# Altium integrated library Linear Technology PMIC-Switching Reg LTC1174-LTC3901.IntLib: 2647 symbols (part 97 of 310)
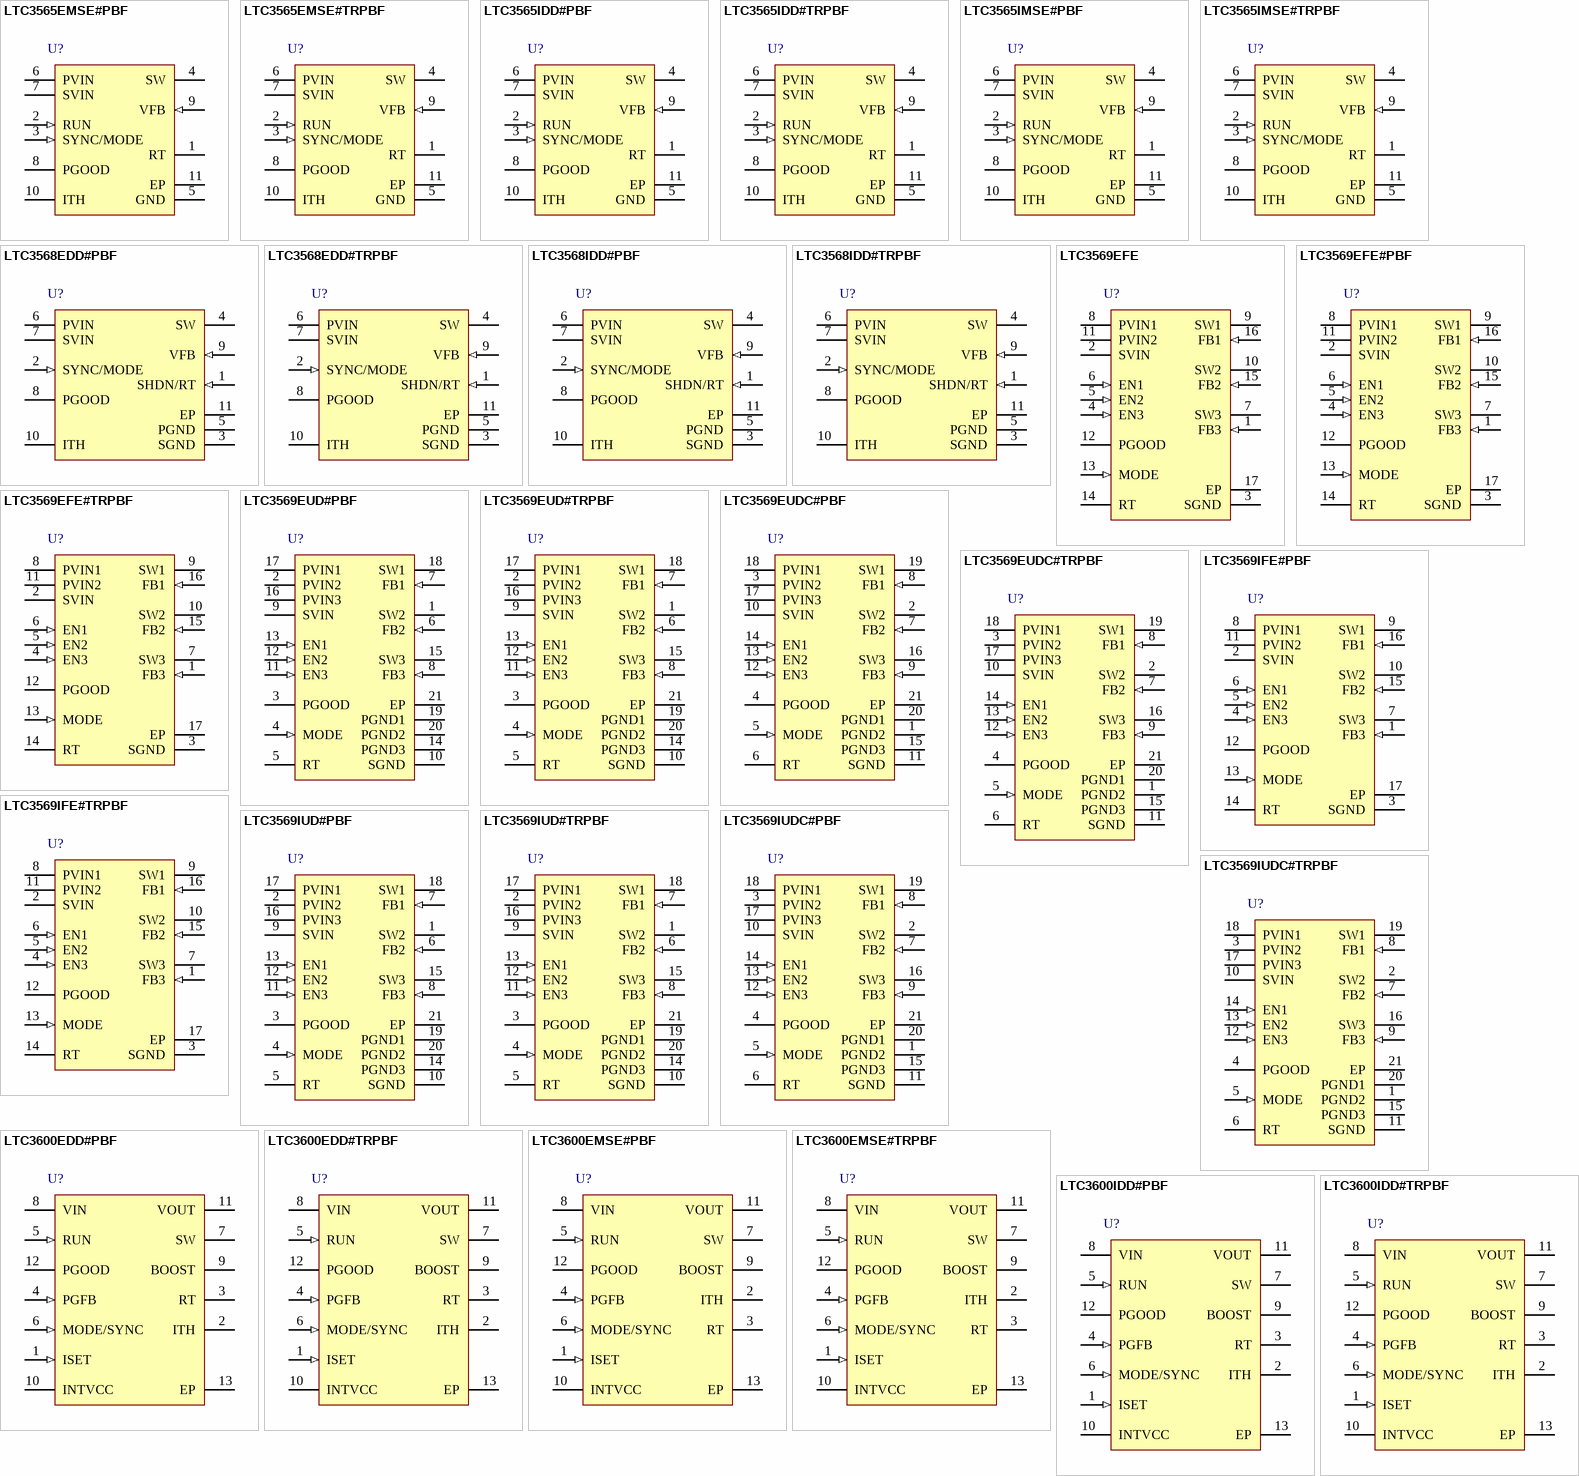
[diagram p170: symbols LTC3565EMSE#PBF to LTC3600IDD#TRPBF]

## LTC3565IMSE#TRPBF
designator U?
1.25 A, 4 MHz, Synchronous Step-Down DC/DC Converter, 10-pin SOP (MSE-10-EDP), -40 to 125 degC, Pb-Free, Tape and Reel; Manufacturer: Linear Technology; PartNumber: LTC3565IMSE#TRPBF; Number of Outputs: 1; PackageReference: MSE-10; PackageDescription: 10-Pin Plastic MSOP, Exposed Die Pad, Body 3 x 3 mm, Pitch 0.5 mm; Supplier 1: Digi-Key; Supplier Part Number 1: LTC3565IMSE#TRPBF-ND; RoHS: TRUE
footprint LT-MSE-10-EDP_N (SOP, 10-Leads, Body 3.1x3.1mm, Pitch 0.5mm, Thermal Pad 1.88x1.68mm, IPC Medium Density)
footprint LT-MSE-10-EDP_L (SOP, 10-Leads, Body 3.1x3.1mm, Pitch 0.5mm, Thermal Pad 1.88x1.68mm, IPC High Density)
footprint LT-MSE-10-EDP_M (SOP, 10-Leads, Body 3.1x3.1mm, Pitch 0.5mm, Thermal Pad 1.88x1.68mm, IPC Low Density)
pins: 1 RT "Timing Resistor Pin. The oscillator frequency is programmed by connecting a resistor from this pin to ground.", 2 RUN (in) "Converter Enable Pin. Forcing this pin above 1.5V enables this part, while forcing it below 0.3V causes the device to shut down. In shutdown, the device draws <1uA supply current. This pin must be driven; do not float.", 3 SYNC/MODE (in) "Combination Mode Selection and Oscillator Synchronization Pin. This pin controls the operation of the device. When tied to SVIN or GND, Burst Mode operation or pulse skipping mode is selected, respectively. If this pin is (See Datasheet)", 4 SW (power) "The Switch Node Connection to the Inductor. This pin swings from PVIN to GND.", 5 GND (power) "Main Power Ground Pin. Connect to the (-) terminal of COUT, and (-) terminal of CIN. The exposed pad must be soldered to electrical ground on the PCB.", 6 PVIN (power) "Main Supply Pin. Must be closely decoupled to GND.", 7 SVIN (power) "The Signal Power Pin. All active circuitry is powered from this pin. Must be closely decoupled to GND. SVIN must be greater than or equal to PVIN.", 8 PGOOD (oc) "The Power Good Pin. This common drain logic output is pulled to GND when the output voltage is not within +/-7% of regulation.", 9 VFB (in) "Receives the feedback voltage from the external resistive divider across the output. Nominal voltage for this pin is 0.6V.", 10 ITH "Error Amplifier Compensation Point. The current comparator threshold increases with this control voltage. Nominal voltage range for this pin is 0.4V to 1.4V.", 11 EP (power) "Main Power Ground Pin. Connect to the (-) terminal of COUT, and (-) terminal of CIN. The exposed pad must be soldered to electrical ground on the PCB."

## LTC3568EDD#PBF
designator U?
1.8 A, 4 MHz, Synchronous Step-Down DC/DC Converter, 10-pin SON (DD-10), -40 to 125 degC, Pb-Free; Manufacturer: Linear Technology; PartNumber: LTC3568EDD#PBF; Number of Outputs: 1; PackageReference: DD-10; PackageDescription: 10-Pin Plastic DFN, Body 3 x 3 mm, Pitch 0.5 mm; Supplier 1: Digi-Key; Supplier Part Number 1: LTC3568EDD#PBF-ND; RoHS: TRUE; Code_JEDEC: MO-229
footprint LT-DD-10_V (SON, 10-Leads, Body 3x3mm, Pitch 0.5mm, Thermal Pad 2.38x1.65mm)
pins: 1 SHDN/RT (in) "Combination Shutdown and Timing Resistor Pin. The oscillator frequency is programmed by connecting a resistor from this pin to ground. Forcing this pin to SVIN causes the device to be shut down. In shutdown all functions are (See Datasheet)", 2 SYNC/MODE (in) "Combination Mode Selection and Oscillator Synchronization Pin. This pin controls the operation of the device. When tied to SVIN or SGND, Burst Mode operation or pulse skipping mode is selected, respectively. If this pin is (See Datasheet)", 3 SGND (power) "The Signal Ground Pin. All small-signal components and compensation components should be connected to this ground (see Board Layout Considerations).", 4 SW (power) "The Switch Node Connection to the Inductor. This pin swings from PVIN to PGND.", 5 PGND (power) "Main Power Ground Pin. Connect to the (-) terminal of COUT, and (-) terminal of CIN.", 6 PVIN (power) "Main Supply Pin. Must be closely decoupled to PGND.", 7 SVIN (power) "The Signal Power Pin. All active circuitry is powered from this pin. Must be closely decoupled to SGND. SVIN must be greater than or equal to PVIN.", 8 PGOOD (oc) "The Power Good Pin.", 9 VFB (in) "Receives the feedback voltage from the external resistive divider across the output. Nominal voltage for this pin is 0.8V.", 10 ITH "Error Amplifier Compensation Point.", 11 EP (power) "Power Ground."

## LTC3568EDD#TRPBF
designator U?
1.8 A, 4 MHz, Synchronous Step-Down DC/DC Converter, 10-pin SON (DD-10), -40 to 125 degC, Pb-Free, Tape and Reel; Manufacturer: Linear Technology; PartNumber: LTC3568EDD#TRPBF; Number of Outputs: 1; PackageReference: DD-10; PackageDescription: 10-Pin Plastic DFN, Body 3 x 3 mm, Pitch 0.5 mm; Supplier 1: Digi-Key; Supplier Part Number 1: LTC3568EDD#TRPBF-ND; RoHS: TRUE; Code_JEDEC: MO-229
footprint LT-DD-10_V (SON, 10-Leads, Body 3x3mm, Pitch 0.5mm, Thermal Pad 2.38x1.65mm)
pins: 1 SHDN/RT (in) "Combination Shutdown and Timing Resistor Pin. The oscillator frequency is programmed by connecting a resistor from this pin to ground. Forcing this pin to SVIN causes the device to be shut down. In shutdown all functions are (See Datasheet)", 2 SYNC/MODE (in) "Combination Mode Selection and Oscillator Synchronization Pin. This pin controls the operation of the device. When tied to SVIN or SGND, Burst Mode operation or pulse skipping mode is selected, respectively. If this pin is (See Datasheet)", 3 SGND (power) "The Signal Ground Pin. All small-signal components and compensation components should be connected to this ground (see Board Layout Considerations).", 4 SW (power) "The Switch Node Connection to the Inductor. This pin swings from PVIN to PGND.", 5 PGND (power) "Main Power Ground Pin. Connect to the (-) terminal of COUT, and (-) terminal of CIN.", 6 PVIN (power) "Main Supply Pin. Must be closely decoupled to PGND.", 7 SVIN (power) "The Signal Power Pin. All active circuitry is powered from this pin. Must be closely decoupled to SGND. SVIN must be greater than or equal to PVIN.", 8 PGOOD (oc) "The Power Good Pin.", 9 VFB (in) "Receives the feedback voltage from the external resistive divider across the output. Nominal voltage for this pin is 0.8V.", 10 ITH "Error Amplifier Compensation Point.", 11 EP (power) "Power Ground."

## LTC3568IDD#PBF
designator U?
1.8 A, 4 MHz, Synchronous Step-Down DC/DC Converter, 10-pin SON (DD-10), -40 to 125 degC, Pb-Free; Manufacturer: Linear Technology; PartNumber: LTC3568IDD#PBF; Number of Outputs: 1; PackageReference: DD-10; PackageDescription: 10-Pin Plastic DFN, Body 3 x 3 mm, Pitch 0.5 mm; Supplier 1: Digi-Key; Supplier Part Number 1: LTC3568IDD#PBF-ND; RoHS: TRUE; Code_JEDEC: MO-229
footprint LT-DD-10_V (SON, 10-Leads, Body 3x3mm, Pitch 0.5mm, Thermal Pad 2.38x1.65mm)
pins: 1 SHDN/RT (in) "Combination Shutdown and Timing Resistor Pin. The oscillator frequency is programmed by connecting a resistor from this pin to ground. Forcing this pin to SVIN causes the device to be shut down. In shutdown all functions are (See Datasheet)", 2 SYNC/MODE (in) "Combination Mode Selection and Oscillator Synchronization Pin. This pin controls the operation of the device. When tied to SVIN or SGND, Burst Mode operation or pulse skipping mode is selected, respectively. If this pin is (See Datasheet)", 3 SGND (power) "The Signal Ground Pin. All small-signal components and compensation components should be connected to this ground (see Board Layout Considerations).", 4 SW (power) "The Switch Node Connection to the Inductor. This pin swings from PVIN to PGND.", 5 PGND (power) "Main Power Ground Pin. Connect to the (-) terminal of COUT, and (-) terminal of CIN.", 6 PVIN (power) "Main Supply Pin. Must be closely decoupled to PGND.", 7 SVIN (power) "The Signal Power Pin. All active circuitry is powered from this pin. Must be closely decoupled to SGND. SVIN must be greater than or equal to PVIN.", 8 PGOOD (oc) "The Power Good Pin.", 9 VFB (in) "Receives the feedback voltage from the external resistive divider across the output. Nominal voltage for this pin is 0.8V.", 10 ITH "Error Amplifier Compensation Point.", 11 EP (power) "Power Ground."

## LTC3568IDD#TRPBF
designator U?
1.8 A, 4 MHz, Synchronous Step-Down DC/DC Converter, 10-pin SON (DD-10), -40 to 125 degC, Pb-Free, Tape and Reel; Manufacturer: Linear Technology; PartNumber: LTC3568IDD#TRPBF; Number of Outputs: 1; PackageReference: DD-10; PackageDescription: 10-Pin Plastic DFN, Body 3 x 3 mm, Pitch 0.5 mm; Supplier 1: Digi-Key; Supplier Part Number 1: LTC3568IDD#TRPBF-ND; RoHS: TRUE; Code_JEDEC: MO-229
footprint LT-DD-10_V (SON, 10-Leads, Body 3x3mm, Pitch 0.5mm, Thermal Pad 2.38x1.65mm)
pins: 1 SHDN/RT (in) "Combination Shutdown and Timing Resistor Pin. The oscillator frequency is programmed by connecting a resistor from this pin to ground. Forcing this pin to SVIN causes the device to be shut down. In shutdown all functions are (See Datasheet)", 2 SYNC/MODE (in) "Combination Mode Selection and Oscillator Synchronization Pin. This pin controls the operation of the device. When tied to SVIN or SGND, Burst Mode operation or pulse skipping mode is selected, respectively. If this pin is (See Datasheet)", 3 SGND (power) "The Signal Ground Pin. All small-signal components and compensation components should be connected to this ground (see Board Layout Considerations).", 4 SW (power) "The Switch Node Connection to the Inductor. This pin swings from PVIN to PGND.", 5 PGND (power) "Main Power Ground Pin. Connect to the (-) terminal of COUT, and (-) terminal of CIN.", 6 PVIN (power) "Main Supply Pin. Must be closely decoupled to PGND.", 7 SVIN (power) "The Signal Power Pin. All active circuitry is powered from this pin. Must be closely decoupled to SGND. SVIN must be greater than or equal to PVIN.", 8 PGOOD (oc) "The Power Good Pin.", 9 VFB (in) "Receives the feedback voltage from the external resistive divider across the output. Nominal voltage for this pin is 0.8V.", 10 ITH "Error Amplifier Compensation Point.", 11 EP (power) "Power Ground."

## LTC3569EFE
designator U?
Triple Buck Regulator with 1.2 A and Two 600 mA Outputs and Individual Programmable References, 16-pin SOP (FE-16-EPV-BA), -40 to 125 degC; Manufacturer: Linear Technology; PartNumber: LTC3569EFE; Number of Outputs: 3; PackageReference: FE-16; PackageDescription: 16-Pin Plastic TSSOP, Body 5 x 4.4 mm, Pitch 0.65 mm; RoHS: FALSE
footprint LT-FE-16-EPV-BA_N (SOP, 16-Leads, Body 5x4.4mm, Pitch 0.65mm, Thermal Pad 2.74x2.74mm, IPC Medium Density)
footprint LT-FE-16-EPV-BA_L (SOP, 16-Leads, Body 5x4.4mm, Pitch 0.65mm, Thermal Pad 2.74x2.74mm, IPC High Density)
footprint LT-FE-16-EPV-BA_M (SOP, 16-Leads, Body 5x4.4mm, Pitch 0.65mm, Thermal Pad 2.74x2.74mm, IPC Low Density)
pins: 1 FB3 (in) "Receives the feedback voltage from the external resistive divider across the output of Buck 3. Nominal voltage for this pin is programmed with the EN3 pin from 800mV down to 425mV. When pulled to SVIN, Buck 3 is put into (See Datasheet)", 2 SVIN (power) "Main Supply Pin. Decouple to SGND with a low ESR 1uF capacitor.", 3 SGND (power) "Main Ground Pin. Decouple to SVIN.", 4 EN3 (in) "Enable Pin for Buck 3. Toggle up to 15 times to program reference feedback level from 800mV down to 425mV.", 5 EN2 (in) "Enable Pin for Buck 2. Toggle up to 15 times to program reference feedback level from 800mV down to 425mV.", 6 EN1 (in) "Enable Pin for Buck 1. Toggle up to 15 times to program reference feedback level from 800mV down to 425mV.", 7 SW3 (power) "Buck 3 Switch. Connect to the Inductor for Buck 3. This pin swings from PVIN3 to PGND3.", 8 PVIN1 (power) "Main Supply Pin for Buck 1. Decouple to PGND1 with a low ESR 4.7uF capacitor, CIN1. Decoupling capacitors should be summed where power supply pins are shared.", 9 SW1 (power) "Buck 1 Switch. Connect to the Inductor for Buck 1. This pin swings from PVIN1 to PGND1.", 10 SW2 (power) "Buck 2 Switch. Connect to the Inductor for Buck 2. This pin swings from PVIN2 to PGND2.", 11 PVIN2 (power) "Main Supply Pin for Buck 2. Decouple to PGND2 with a low ESR 4.7uF capacitor, CIN2. Decoupling capacitors should be summed where power supply pins are shared.", 12 PGOOD (oc) "The Power Good Pin. This open-drain output is released when an enabled output has risen to within 8% of the regulation voltage. When multiple outputs are enabled, PGOOD is the logical AND of each internal PGOOD.", 13 MODE (in) "Combination Mode Selection and Oscillator Synchronization Pin. This pin controls the operating mode of the device. When tied to SVIN, Burst Mode operation is selected. When tied to SGND, pulse-skipping mode is selected. The (See Datasheet)", 14 RT "Timing Resistor Pin. The free-running oscillator frequency is programmed by connecting a resistor from this pin to ground. Tie to SVIN to get a fixed 2.25MHz operating frequency.", 15 FB2 (in) "Receives the feedback voltage from the external resistive divider across the output of Buck 2. Nominal voltage for this pin is programmed with the EN2 pin from 800mV down to 425mV. When pulled to SVIN, Buck 2 is put into (See Datasheet)", 16 FB1 (in) "Receives the feedback voltage from the external resistive divider across the output of Buck 1. Nominal voltage for this pin is programmed with the EN1 pin from 800mV down to 425mV.", 17 EP (power) "The exposed pad must be connected to PCB ground for rated thermal performance and for electrical connection in the TSSOP package."

## LTC3569EFE#PBF
designator U?
Triple Buck Regulator with 1.2 A and Two 600 mA Outputs and Individual Programmable References, 16-pin SOP (FE-16-EPV-BA), -40 to 125 degC, Pb-Free; Manufacturer: Linear Technology; PartNumber: LTC3569EFE#PBF; Number of Outputs: 3; PackageReference: FE-16; PackageDescription: 16-Pin Plastic TSSOP, Body 5 x 4.4 mm, Pitch 0.65 mm; Supplier 1: Digi-Key; Supplier Part Number 1: LTC3569EFE#PBF-ND; RoHS: TRUE
footprint LT-FE-16-EPV-BA_N (SOP, 16-Leads, Body 5x4.4mm, Pitch 0.65mm, Thermal Pad 2.74x2.74mm, IPC Medium Density)
footprint LT-FE-16-EPV-BA_L (SOP, 16-Leads, Body 5x4.4mm, Pitch 0.65mm, Thermal Pad 2.74x2.74mm, IPC High Density)
footprint LT-FE-16-EPV-BA_M (SOP, 16-Leads, Body 5x4.4mm, Pitch 0.65mm, Thermal Pad 2.74x2.74mm, IPC Low Density)
pins: 1 FB3 (in) "Receives the feedback voltage from the external resistive divider across the output of Buck 3. Nominal voltage for this pin is programmed with the EN3 pin from 800mV down to 425mV. When pulled to SVIN, Buck 3 is put into (See Datasheet)", 2 SVIN (power) "Main Supply Pin. Decouple to SGND with a low ESR 1uF capacitor.", 3 SGND (power) "Main Ground Pin. Decouple to SVIN.", 4 EN3 (in) "Enable Pin for Buck 3. Toggle up to 15 times to program reference feedback level from 800mV down to 425mV.", 5 EN2 (in) "Enable Pin for Buck 2. Toggle up to 15 times to program reference feedback level from 800mV down to 425mV.", 6 EN1 (in) "Enable Pin for Buck 1. Toggle up to 15 times to program reference feedback level from 800mV down to 425mV.", 7 SW3 (power) "Buck 3 Switch. Connect to the Inductor for Buck 3. This pin swings from PVIN3 to PGND3.", 8 PVIN1 (power) "Main Supply Pin for Buck 1. Decouple to PGND1 with a low ESR 4.7uF capacitor, CIN1. Decoupling capacitors should be summed where power supply pins are shared.", 9 SW1 (power) "Buck 1 Switch. Connect to the Inductor for Buck 1. This pin swings from PVIN1 to PGND1.", 10 SW2 (power) "Buck 2 Switch. Connect to the Inductor for Buck 2. This pin swings from PVIN2 to PGND2.", 11 PVIN2 (power) "Main Supply Pin for Buck 2. Decouple to PGND2 with a low ESR 4.7uF capacitor, CIN2. Decoupling capacitors should be summed where power supply pins are shared.", 12 PGOOD (oc) "The Power Good Pin. This open-drain output is released when an enabled output has risen to within 8% of the regulation voltage. When multiple outputs are enabled, PGOOD is the logical AND of each internal PGOOD.", 13 MODE (in) "Combination Mode Selection and Oscillator Synchronization Pin. This pin controls the operating mode of the device. When tied to SVIN, Burst Mode operation is selected. When tied to SGND, pulse-skipping mode is selected. The (See Datasheet)", 14 RT "Timing Resistor Pin. The free-running oscillator frequency is programmed by connecting a resistor from this pin to ground. Tie to SVIN to get a fixed 2.25MHz operating frequency.", 15 FB2 (in) "Receives the feedback voltage from the external resistive divider across the output of Buck 2. Nominal voltage for this pin is programmed with the EN2 pin from 800mV down to 425mV. When pulled to SVIN, Buck 2 is put into (See Datasheet)", 16 FB1 (in) "Receives the feedback voltage from the external resistive divider across the output of Buck 1. Nominal voltage for this pin is programmed with the EN1 pin from 800mV down to 425mV.", 17 EP (power) "The exposed pad must be connected to PCB ground for rated thermal performance and for electrical connection in the TSSOP package."

## LTC3569EFE#TRPBF
designator U?
Triple Buck Regulator with 1.2 A and Two 600 mA Outputs and Individual Programmable References, 16-pin SOP (FE-16-EPV-BA), -40 to 125 degC, Pb-Free, Tape and Reel; Manufacturer: Linear Technology; PartNumber: LTC3569EFE#TRPBF; Number of Outputs: 3; PackageReference: FE-16; PackageDescription: 16-Pin Plastic TSSOP, Body 5 x 4.4 mm, Pitch 0.65 mm; Supplier 1: Digi-Key; Supplier Part Number 1: LTC3569EFE#TRPBF-ND; RoHS: TRUE
footprint LT-FE-16-EPV-BA_N (SOP, 16-Leads, Body 5x4.4mm, Pitch 0.65mm, Thermal Pad 2.74x2.74mm, IPC Medium Density)
footprint LT-FE-16-EPV-BA_L (SOP, 16-Leads, Body 5x4.4mm, Pitch 0.65mm, Thermal Pad 2.74x2.74mm, IPC High Density)
footprint LT-FE-16-EPV-BA_M (SOP, 16-Leads, Body 5x4.4mm, Pitch 0.65mm, Thermal Pad 2.74x2.74mm, IPC Low Density)
pins: 1 FB3 (in) "Receives the feedback voltage from the external resistive divider across the output of Buck 3. Nominal voltage for this pin is programmed with the EN3 pin from 800mV down to 425mV. When pulled to SVIN, Buck 3 is put into (See Datasheet)", 2 SVIN (power) "Main Supply Pin. Decouple to SGND with a low ESR 1uF capacitor.", 3 SGND (power) "Main Ground Pin. Decouple to SVIN.", 4 EN3 (in) "Enable Pin for Buck 3. Toggle up to 15 times to program reference feedback level from 800mV down to 425mV.", 5 EN2 (in) "Enable Pin for Buck 2. Toggle up to 15 times to program reference feedback level from 800mV down to 425mV.", 6 EN1 (in) "Enable Pin for Buck 1. Toggle up to 15 times to program reference feedback level from 800mV down to 425mV.", 7 SW3 (power) "Buck 3 Switch. Connect to the Inductor for Buck 3. This pin swings from PVIN3 to PGND3.", 8 PVIN1 (power) "Main Supply Pin for Buck 1. Decouple to PGND1 with a low ESR 4.7uF capacitor, CIN1. Decoupling capacitors should be summed where power supply pins are shared.", 9 SW1 (power) "Buck 1 Switch. Connect to the Inductor for Buck 1. This pin swings from PVIN1 to PGND1.", 10 SW2 (power) "Buck 2 Switch. Connect to the Inductor for Buck 2. This pin swings from PVIN2 to PGND2.", 11 PVIN2 (power) "Main Supply Pin for Buck 2. Decouple to PGND2 with a low ESR 4.7uF capacitor, CIN2. Decoupling capacitors should be summed where power supply pins are shared.", 12 PGOOD (oc) "The Power Good Pin. This open-drain output is released when an enabled output has risen to within 8% of the regulation voltage. When multiple outputs are enabled, PGOOD is the logical AND of each internal PGOOD.", 13 MODE (in) "Combination Mode Selection and Oscillator Synchronization Pin. This pin controls the operating mode of the device. When tied to SVIN, Burst Mode operation is selected. When tied to SGND, pulse-skipping mode is selected. The (See Datasheet)", 14 RT "Timing Resistor Pin. The free-running oscillator frequency is programmed by connecting a resistor from this pin to ground. Tie to SVIN to get a fixed 2.25MHz operating frequency.", 15 FB2 (in) "Receives the feedback voltage from the external resistive divider across the output of Buck 2. Nominal voltage for this pin is programmed with the EN2 pin from 800mV down to 425mV. When pulled to SVIN, Buck 2 is put into (See Datasheet)", 16 FB1 (in) "Receives the feedback voltage from the external resistive divider across the output of Buck 1. Nominal voltage for this pin is programmed with the EN1 pin from 800mV down to 425mV.", 17 EP (power) "The exposed pad must be connected to PCB ground for rated thermal performance and for electrical connection in the TSSOP package."

## LTC3569EUD#PBF
designator U?
Triple Buck Regulator with 1.2 A and Two 600 mA Outputs and Individual Programmable References, 20-pin QFN (UD-20), -40 to 125 degC, Pb-Free; Manufacturer: Linear Technology; PartNumber: LTC3569EUD#PBF; Number of Outputs: 3; PackageReference: UD-20; PackageDescription: 20-Pin Plastic QFN, Body 3 x 3 mm, Pitch 0.4 mm; Supplier 1: Digi-Key; Supplier Part Number 1: LTC3569EUD#PBF-ND; RoHS: TRUE
footprint LT-UD-20_N (QFN, 20-Leads, Body 3.1x3.1mm, Pitch 0.4mm, Thermal Pad 1.65x1.65mm, IPC Medium Density)
footprint LT-UD-20_L (QFN, 20-Leads, Body 3.1x3.1mm, Pitch 0.4mm, Thermal Pad 1.65x1.65mm, IPC High Density)
footprint LT-UD-20_M (QFN, 20-Leads, Body 3.1x3.1mm, Pitch 0.4mm, Thermal Pad 1.65x1.65mm, IPC Low Density)
pins: 1 SW2 (power) "Buck 2 Switch. Connect to the Inductor for Buck 2. This pin swings from PVIN2 to PGND2.", 2 PVIN2 (power) "Main Supply Pin for Buck 2. Decouple to PGND2 with a low ESR 4.7uF capacitor, CIN2. Decoupling capacitors should be summed where power supply pins are shared.", 3 PGOOD (oc) "The Power Good Pin. This open-drain output is released when an enabled output has risen to within 8% of the regulation voltage. When multiple outputs are enabled, PGOOD is the logical AND of each internal PGOOD.", 4 MODE (in) "Combination Mode Selection and Oscillator Synchronization Pin. This pin controls the operating mode of the device. When tied to SVIN, Burst Mode operation is selected. When tied to SGND, pulse-skipping mode is selected. The (See Datasheet)", 5 RT "Timing Resistor Pin. The free-running oscillator frequency is programmed by connecting a resistor from this pin to ground. Tie to SVIN to get a fixed 2.25MHz operating frequency.", 6 FB2 (in) "Receives the feedback voltage from the external resistive divider across the output of Buck 2. Nominal voltage for this pin is programmed with the EN2 pin from 800mV down to 425mV. When pulled to SVIN, Buck 2 is put into (See Datasheet)", 7 FB1 (in) "Receives the feedback voltage from the external resistive divider across the output of Buck 1. Nominal voltage for this pin is programmed with the EN1 pin from 800mV down to 425mV.", 8 FB3 (in) "Receives the feedback voltage from the external resistive divider across the output of Buck 3. Nominal voltage for this pin is programmed with the EN3 pin from 800mV down to 425mV. When pulled to SVIN, Buck 3 is put into (See Datasheet)", 9 SVIN (power) "Main Supply Pin. Decouple to SGND with a low ESR 1uF capacitor.", 10 SGND (power) "Main Ground Pin. Decouple to SVIN.", 11 EN3 (in) "Enable Pin for Buck 3. Toggle up to 15 times to program reference feedback level from 800mV down to 425mV", 12 EN2 (in) "Enable Pin for Buck 2. Toggle up to 15 times to program reference feedback level from 800mV down to 425mV.", 13 EN1 (in) "Enable Pin for Buck 1. Toggle up to 15 times to program reference feedback level from 800mV down to 425mV.", 14 PGND3 (power) "Main Power Ground Pin for Buck 3. Connect to the (-) terminal of the output capacitor for Buck3, and (-) terminal of CIN3. Decoupling capacitors should be summed where power supply pins are shared.", 15 SW3 (power) "Buck 3 Switch. Connect to the Inductor for Buck 3. This pin swings from PVIN3 to PGND3.", 16 PVIN3 (power) "Main Supply Pin for Buck 3. Decouple to PGND3 with a low ESR 4.7uF capacitor, CIN3. Decoupling capacitors should be summed where power supply pins are shared.", 17 PVIN1 (power) "Main Supply Pin for Buck 1. Decouple to PGND1 with a low ESR 4.7uF capacitor, CIN1. Decoupling capacitors should be summed where power supply pins are shared.", 18 SW1 (power) "Buck 1 Switch. Connect to the Inductor for Buck 1. This pin swings from PVIN1 to PGND1.", 19 PGND1 (power) "Main Power Ground Pin for Buck 1. Connect to the (-) terminal of the output capacitor for Buck1, and (-) terminal of CIN1. Decoupling capacitors should be summed where power supply pins are shared.", 20 PGND2 (power) "Main Power Ground Pin for Buck 2. Connect to the (-) terminal of the output capacitor for Buck2, and (-) terminal of CIN2. Decoupling capacitors should be summed where power supply pins are shared.", 21 EP (power) "The exposed pad must be connected to PCB ground for rated thermal performance and for electrical connection in the TSSOP package."

## LTC3569EUD#TRPBF
designator U?
Triple Buck Regulator with 1.2 A and Two 600 mA Outputs and Individual Programmable References, 20-pin QFN (UD-20), -40 to 125 degC, Pb-Free, Tape and Reel; Manufacturer: Linear Technology; PartNumber: LTC3569EUD#TRPBF; Number of Outputs: 3; PackageReference: UD-20; PackageDescription: 20-Pin Plastic QFN, Body 3 x 3 mm, Pitch 0.4 mm; Supplier 1: Digi-Key; Supplier Part Number 1: LTC3569EUD#TRPBF-ND; RoHS: TRUE
footprint LT-UD-20_N (QFN, 20-Leads, Body 3.1x3.1mm, Pitch 0.4mm, Thermal Pad 1.65x1.65mm, IPC Medium Density)
footprint LT-UD-20_L (QFN, 20-Leads, Body 3.1x3.1mm, Pitch 0.4mm, Thermal Pad 1.65x1.65mm, IPC High Density)
footprint LT-UD-20_M (QFN, 20-Leads, Body 3.1x3.1mm, Pitch 0.4mm, Thermal Pad 1.65x1.65mm, IPC Low Density)
pins: 1 SW2 (power) "Buck 2 Switch. Connect to the Inductor for Buck 2. This pin swings from PVIN2 to PGND2.", 2 PVIN2 (power) "Main Supply Pin for Buck 2. Decouple to PGND2 with a low ESR 4.7uF capacitor, CIN2. Decoupling capacitors should be summed where power supply pins are shared.", 3 PGOOD (oc) "The Power Good Pin. This open-drain output is released when an enabled output has risen to within 8% of the regulation voltage. When multiple outputs are enabled, PGOOD is the logical AND of each internal PGOOD.", 4 MODE (in) "Combination Mode Selection and Oscillator Synchronization Pin. This pin controls the operating mode of the device. When tied to SVIN, Burst Mode operation is selected. When tied to SGND, pulse-skipping mode is selected. The (See Datasheet)", 5 RT "Timing Resistor Pin. The free-running oscillator frequency is programmed by connecting a resistor from this pin to ground. Tie to SVIN to get a fixed 2.25MHz operating frequency.", 6 FB2 (in) "Receives the feedback voltage from the external resistive divider across the output of Buck 2. Nominal voltage for this pin is programmed with the EN2 pin from 800mV down to 425mV. When pulled to SVIN, Buck 2 is put into (See Datasheet)", 7 FB1 (in) "Receives the feedback voltage from the external resistive divider across the output of Buck 1. Nominal voltage for this pin is programmed with the EN1 pin from 800mV down to 425mV.", 8 FB3 (in) "Receives the feedback voltage from the external resistive divider across the output of Buck 3. Nominal voltage for this pin is programmed with the EN3 pin from 800mV down to 425mV. When pulled to SVIN, Buck 3 is put into (See Datasheet)", 9 SVIN (power) "Main Supply Pin. Decouple to SGND with a low ESR 1uF capacitor.", 10 SGND (power) "Main Ground Pin. Decouple to SVIN.", 11 EN3 (in) "Enable Pin for Buck 3. Toggle up to 15 times to program reference feedback level from 800mV down to 425mV", 12 EN2 (in) "Enable Pin for Buck 2. Toggle up to 15 times to program reference feedback level from 800mV down to 425mV.", 13 EN1 (in) "Enable Pin for Buck 1. Toggle up to 15 times to program reference feedback level from 800mV down to 425mV.", 14 PGND3 (power) "Main Power Ground Pin for Buck 3. Connect to the (-) terminal of the output capacitor for Buck3, and (-) terminal of CIN3. Decoupling capacitors should be summed where power supply pins are shared.", 15 SW3 (power) "Buck 3 Switch. Connect to the Inductor for Buck 3. This pin swings from PVIN3 to PGND3.", 16 PVIN3 (power) "Main Supply Pin for Buck 3. Decouple to PGND3 with a low ESR 4.7uF capacitor, CIN3. Decoupling capacitors should be summed where power supply pins are shared.", 17 PVIN1 (power) "Main Supply Pin for Buck 1. Decouple to PGND1 with a low ESR 4.7uF capacitor, CIN1. Decoupling capacitors should be summed where power supply pins are shared.", 18 SW1 (power) "Buck 1 Switch. Connect to the Inductor for Buck 1. This pin swings from PVIN1 to PGND1.", 19 PGND1 (power) "Main Power Ground Pin for Buck 1. Connect to the (-) terminal of the output capacitor for Buck1, and (-) terminal of CIN1. Decoupling capacitors should be summed where power supply pins are shared.", 20 PGND2 (power) "Main Power Ground Pin for Buck 2. Connect to the (-) terminal of the output capacitor for Buck2, and (-) terminal of CIN2. Decoupling capacitors should be summed where power supply pins are shared.", 21 EP (power) "The exposed pad must be connected to PCB ground for rated thermal performance and for electrical connection in the TSSOP package."

## LTC3569EUDC#PBF
designator U?
Triple Buck Regulator with 1.2 A and Two 600 mA Outputs and Individual Programmable References, 20-pin QFN (UDC-20), -40 to 125 degC, Pb-Free; Manufacturer: Linear Technology; PartNumber: LTC3569EUDC#PBF; Number of Outputs: 3; PackageReference: UDC20; PackageDescription: 20-Pin Plastic QFN, Body 3 x 4 mm, Pitch 0.5 mm; Supplier 1: Digi-Key; Supplier Part Number 1: LTC3569EUDC#PBF-ND; RoHS: TRUE
footprint LT-UDC-20_N (QFN, 20-Leads, Body 4.1x3.1mm, Pitch 0.5mm, Thermal Pad 2.65x1.65mm, IPC Medium Density)
footprint LT-UDC-20_L (QFN, 20-Leads, Body 4.1x3.1mm, Pitch 0.5mm, Thermal Pad 2.65x1.65mm, IPC High Density)
footprint LT-UDC-20_M (QFN, 20-Leads, Body 4.1x3.1mm, Pitch 0.5mm, Thermal Pad 2.65x1.65mm, IPC Low Density)
pins: 1 PGND2 (power) "Main Power Ground Pin for Buck 2. Connect to the (-) terminal of the output capacitor for Buck2, and (-) terminal of CIN2. Decoupling capacitors should be summed where power supply pins are shared.", 2 SW2 (power) "Buck 2 Switch. Connect to the Inductor for Buck 2. This pin swings from PVIN2 to PGND2.", 3 PVIN2 (power) "Main Supply Pin for Buck 2. Decouple to PGND2 with a low ESR 4.7uF capacitor, CIN2. Decoupling capacitors should be summed where power supply pins are shared.", 4 PGOOD (oc) "The Power Good Pin. This open-drain output is released when an enabled output has risen to within 8% of the regulation voltage. When multiple outputs are enabled, PGOOD is the logical AND of each internal PGOOD.", 5 MODE (in) "Combination Mode Selection and Oscillator Synchronization Pin. This pin controls the operating mode of the device. When tied to SVIN, Burst Mode operation is selected. When tied to SGND, pulse-skipping mode is selected. The (See Datasheet)", 6 RT "Timing Resistor Pin. The free-running oscillator frequency is programmed by connecting a resistor from this pin to ground. Tie to SVIN to get a fixed 2.25MHz operating frequency.", 7 FB2 (in) "Receives the feedback voltage from the external resistive divider across the output of Buck 2. Nominal voltage for this pin is programmed with the EN2 pin from 800mV down to 425mV. When pulled to SVIN, Buck 2 is put into (See Datasheet)", 8 FB1 (in) "Receives the feedback voltage from the external resistive divider across the output of Buck 1. Nominal voltage for this pin is programmed with the EN1 pin from 800mV down to 425mV.", 9 FB3 (in) "Receives the feedback voltage from the external resistive divider across the output of Buck 3. Nominal voltage for this pin is programmed with the EN3 pin from 800mV down to 425mV. When pulled to SVIN, Buck 3 is put into (See Datasheet)", 10 SVIN (power) "Main Supply Pin. Decouple to SGND with a low ESR 1uF capacitor.", 11 SGND (power) "Main Ground Pin. Decouple to SVIN.", 12 EN3 (in) "Enable Pin for Buck 3. Toggle up to 15 times to program reference feedback level from 800mV down to 425mV", 13 EN2 (in) "Enable Pin for Buck 2. Toggle up to 15 times to program reference feedback level from 800mV down to 425mV.", 14 EN1 (in) "Enable Pin for Buck 1. Toggle up to 15 times to program reference feedback level from 800mV down to 425mV.", 15 PGND3 (power) "Main Power Ground Pin for Buck 3. Connect to the (-) terminal of the output capacitor for Buck3, and (-) terminal of CIN3. Decoupling capacitors should be summed where power supply pins are shared.", 16 SW3 (power) "Buck 3 Switch. Connect to the Inductor for Buck 3. This pin swings from PVIN3 to PGND3.", 17 PVIN3 (power) "Main Supply Pin for Buck 3. Decouple to PGND3 with a low ESR 4.7uF capacitor, CIN3. Decoupling capacitors should be summed where power supply pins are shared.", 18 PVIN1 (power) "Main Supply Pin for Buck 1. Decouple to PGND1 with a low ESR 4.7uF capacitor, CIN1. Decoupling capacitors should be summed where power supply pins are shared.", 19 SW1 (power) "Buck 1 Switch. Connect to the Inductor for Buck 1. This pin swings from PVIN1 to PGND1.", 20 PGND1 (power) "Main Power Ground Pin for Buck 1. Connect to the (-) terminal of the output capacitor for Buck1, and (-) terminal of CIN1. Decoupling capacitors should be summed where power supply pins are shared.", 21 EP (power) "The exposed pad must be connected to PCB ground for rated thermal performance and for electrical connection in the TSSOP package."

## LTC3569EUDC#TRPBF
designator U?
Triple Buck Regulator with 1.2 A and Two 600 mA Outputs and Individual Programmable References, 20-pin QFN (UDC-20), -40 to 125 degC, Pb-Free, Tape and Reel; Manufacturer: Linear Technology; PartNumber: LTC3569EUDC#TRPBF; Number of Outputs: 3; PackageReference: UDC20; PackageDescription: 20-Pin Plastic QFN, Body 3 x 4 mm, Pitch 0.5 mm; Supplier 1: Digi-Key; Supplier Part Number 1: LTC3569EUDC#TRPBF-ND; RoHS: TRUE
footprint LT-UDC-20_N (QFN, 20-Leads, Body 4.1x3.1mm, Pitch 0.5mm, Thermal Pad 2.65x1.65mm, IPC Medium Density)
footprint LT-UDC-20_L (QFN, 20-Leads, Body 4.1x3.1mm, Pitch 0.5mm, Thermal Pad 2.65x1.65mm, IPC High Density)
footprint LT-UDC-20_M (QFN, 20-Leads, Body 4.1x3.1mm, Pitch 0.5mm, Thermal Pad 2.65x1.65mm, IPC Low Density)
pins: 1 PGND2 (power) "Main Power Ground Pin for Buck 2. Connect to the (-) terminal of the output capacitor for Buck2, and (-) terminal of CIN2. Decoupling capacitors should be summed where power supply pins are shared.", 2 SW2 (power) "Buck 2 Switch. Connect to the Inductor for Buck 2. This pin swings from PVIN2 to PGND2.", 3 PVIN2 (power) "Main Supply Pin for Buck 2. Decouple to PGND2 with a low ESR 4.7uF capacitor, CIN2. Decoupling capacitors should be summed where power supply pins are shared.", 4 PGOOD (oc) "The Power Good Pin. This open-drain output is released when an enabled output has risen to within 8% of the regulation voltage. When multiple outputs are enabled, PGOOD is the logical AND of each internal PGOOD.", 5 MODE (in) "Combination Mode Selection and Oscillator Synchronization Pin. This pin controls the operating mode of the device. When tied to SVIN, Burst Mode operation is selected. When tied to SGND, pulse-skipping mode is selected. The (See Datasheet)", 6 RT "Timing Resistor Pin. The free-running oscillator frequency is programmed by connecting a resistor from this pin to ground. Tie to SVIN to get a fixed 2.25MHz operating frequency.", 7 FB2 (in) "Receives the feedback voltage from the external resistive divider across the output of Buck 2. Nominal voltage for this pin is programmed with the EN2 pin from 800mV down to 425mV. When pulled to SVIN, Buck 2 is put into (See Datasheet)", 8 FB1 (in) "Receives the feedback voltage from the external resistive divider across the output of Buck 1. Nominal voltage for this pin is programmed with the EN1 pin from 800mV down to 425mV.", 9 FB3 (in) "Receives the feedback voltage from the external resistive divider across the output of Buck 3. Nominal voltage for this pin is programmed with the EN3 pin from 800mV down to 425mV. When pulled to SVIN, Buck 3 is put into (See Datasheet)", 10 SVIN (power) "Main Supply Pin. Decouple to SGND with a low ESR 1uF capacitor.", 11 SGND (power) "Main Ground Pin. Decouple to SVIN.", 12 EN3 (in) "Enable Pin for Buck 3. Toggle up to 15 times to program reference feedback level from 800mV down to 425mV", 13 EN2 (in) "Enable Pin for Buck 2. Toggle up to 15 times to program reference feedback level from 800mV down to 425mV.", 14 EN1 (in) "Enable Pin for Buck 1. Toggle up to 15 times to program reference feedback level from 800mV down to 425mV.", 15 PGND3 (power) "Main Power Ground Pin for Buck 3. Connect to the (-) terminal of the output capacitor for Buck3, and (-) terminal of CIN3. Decoupling capacitors should be summed where power supply pins are shared.", 16 SW3 (power) "Buck 3 Switch. Connect to the Inductor for Buck 3. This pin swings from PVIN3 to PGND3.", 17 PVIN3 (power) "Main Supply Pin for Buck 3. Decouple to PGND3 with a low ESR 4.7uF capacitor, CIN3. Decoupling capacitors should be summed where power supply pins are shared.", 18 PVIN1 (power) "Main Supply Pin for Buck 1. Decouple to PGND1 with a low ESR 4.7uF capacitor, CIN1. Decoupling capacitors should be summed where power supply pins are shared.", 19 SW1 (power) "Buck 1 Switch. Connect to the Inductor for Buck 1. This pin swings from PVIN1 to PGND1.", 20 PGND1 (power) "Main Power Ground Pin for Buck 1. Connect to the (-) terminal of the output capacitor for Buck1, and (-) terminal of CIN1. Decoupling capacitors should be summed where power supply pins are shared.", 21 EP (power) "The exposed pad must be connected to PCB ground for rated thermal performance and for electrical connection in the TSSOP package."

## LTC3569IFE#PBF
designator U?
Triple Buck Regulator with 1.2 A and Two 600 mA Outputs and Individual Programmable References, 16-pin SOP (FE-16-EPV-BA), -40 to 125 degC, Pb-Free; Manufacturer: Linear Technology; PartNumber: LTC3569IFE#PBF; Number of Outputs: 3; PackageReference: FE-16; PackageDescription: 16-Pin Plastic TSSOP, Body 5 x 4.4 mm, Pitch 0.65 mm; Supplier 1: Digi-Key; Supplier Part Number 1: LTC3569IFE#PBF-ND; RoHS: TRUE
footprint LT-FE-16-EPV-BA_N (SOP, 16-Leads, Body 5x4.4mm, Pitch 0.65mm, Thermal Pad 2.74x2.74mm, IPC Medium Density)
footprint LT-FE-16-EPV-BA_L (SOP, 16-Leads, Body 5x4.4mm, Pitch 0.65mm, Thermal Pad 2.74x2.74mm, IPC High Density)
footprint LT-FE-16-EPV-BA_M (SOP, 16-Leads, Body 5x4.4mm, Pitch 0.65mm, Thermal Pad 2.74x2.74mm, IPC Low Density)
pins: 1 FB3 (in) "Receives the feedback voltage from the external resistive divider across the output of Buck 3. Nominal voltage for this pin is programmed with the EN3 pin from 800mV down to 425mV. When pulled to SVIN, Buck 3 is put into (See Datasheet)", 2 SVIN (power) "Main Supply Pin. Decouple to SGND with a low ESR 1uF capacitor.", 3 SGND (power) "Main Ground Pin. Decouple to SVIN.", 4 EN3 (in) "Enable Pin for Buck 3. Toggle up to 15 times to program reference feedback level from 800mV down to 425mV.", 5 EN2 (in) "Enable Pin for Buck 2. Toggle up to 15 times to program reference feedback level from 800mV down to 425mV.", 6 EN1 (in) "Enable Pin for Buck 1. Toggle up to 15 times to program reference feedback level from 800mV down to 425mV.", 7 SW3 (power) "Buck 3 Switch. Connect to the Inductor for Buck 3. This pin swings from PVIN3 to PGND3.", 8 PVIN1 (power) "Main Supply Pin for Buck 1. Decouple to PGND1 with a low ESR 4.7uF capacitor, CIN1. Decoupling capacitors should be summed where power supply pins are shared.", 9 SW1 (power) "Buck 1 Switch. Connect to the Inductor for Buck 1. This pin swings from PVIN1 to PGND1.", 10 SW2 (power) "Buck 2 Switch. Connect to the Inductor for Buck 2. This pin swings from PVIN2 to PGND2.", 11 PVIN2 (power) "Main Supply Pin for Buck 2. Decouple to PGND2 with a low ESR 4.7uF capacitor, CIN2. Decoupling capacitors should be summed where power supply pins are shared.", 12 PGOOD (oc) "The Power Good Pin. This open-drain output is released when an enabled output has risen to within 8% of the regulation voltage. When multiple outputs are enabled, PGOOD is the logical AND of each internal PGOOD.", 13 MODE (in) "Combination Mode Selection and Oscillator Synchronization Pin. This pin controls the operating mode of the device. When tied to SVIN, Burst Mode operation is selected. When tied to SGND, pulse-skipping mode is selected. The (See Datasheet)", 14 RT "Timing Resistor Pin. The free-running oscillator frequency is programmed by connecting a resistor from this pin to ground. Tie to SVIN to get a fixed 2.25MHz operating frequency.", 15 FB2 (in) "Receives the feedback voltage from the external resistive divider across the output of Buck 2. Nominal voltage for this pin is programmed with the EN2 pin from 800mV down to 425mV. When pulled to SVIN, Buck 2 is put into (See Datasheet)", 16 FB1 (in) "Receives the feedback voltage from the external resistive divider across the output of Buck 1. Nominal voltage for this pin is programmed with the EN1 pin from 800mV down to 425mV.", 17 EP (power) "The exposed pad must be connected to PCB ground for rated thermal performance and for electrical connection in the TSSOP package."

## LTC3569IFE#TRPBF
designator U?
Triple Buck Regulator with 1.2 A and Two 600 mA Outputs and Individual Programmable References, 16-pin SOP (FE-16-EPV-BA), -40 to 125 degC, Pb-Free, Tape and Reel; Manufacturer: Linear Technology; PartNumber: LTC3569IFE#TRPBF; Number of Outputs: 3; PackageReference: FE-16; PackageDescription: 16-Pin Plastic TSSOP, Body 5 x 4.4 mm, Pitch 0.65 mm; Supplier 1: Digi-Key; Supplier Part Number 1: LTC3569IFE#TRPBF-ND; RoHS: TRUE
footprint LT-FE-16-EPV-BA_N (SOP, 16-Leads, Body 5x4.4mm, Pitch 0.65mm, Thermal Pad 2.74x2.74mm, IPC Medium Density)
footprint LT-FE-16-EPV-BA_L (SOP, 16-Leads, Body 5x4.4mm, Pitch 0.65mm, Thermal Pad 2.74x2.74mm, IPC High Density)
footprint LT-FE-16-EPV-BA_M (SOP, 16-Leads, Body 5x4.4mm, Pitch 0.65mm, Thermal Pad 2.74x2.74mm, IPC Low Density)
pins: 1 FB3 (in) "Receives the feedback voltage from the external resistive divider across the output of Buck 3. Nominal voltage for this pin is programmed with the EN3 pin from 800mV down to 425mV. When pulled to SVIN, Buck 3 is put into (See Datasheet)", 2 SVIN (power) "Main Supply Pin. Decouple to SGND with a low ESR 1uF capacitor.", 3 SGND (power) "Main Ground Pin. Decouple to SVIN.", 4 EN3 (in) "Enable Pin for Buck 3. Toggle up to 15 times to program reference feedback level from 800mV down to 425mV.", 5 EN2 (in) "Enable Pin for Buck 2. Toggle up to 15 times to program reference feedback level from 800mV down to 425mV.", 6 EN1 (in) "Enable Pin for Buck 1. Toggle up to 15 times to program reference feedback level from 800mV down to 425mV.", 7 SW3 (power) "Buck 3 Switch. Connect to the Inductor for Buck 3. This pin swings from PVIN3 to PGND3.", 8 PVIN1 (power) "Main Supply Pin for Buck 1. Decouple to PGND1 with a low ESR 4.7uF capacitor, CIN1. Decoupling capacitors should be summed where power supply pins are shared.", 9 SW1 (power) "Buck 1 Switch. Connect to the Inductor for Buck 1. This pin swings from PVIN1 to PGND1.", 10 SW2 (power) "Buck 2 Switch. Connect to the Inductor for Buck 2. This pin swings from PVIN2 to PGND2.", 11 PVIN2 (power) "Main Supply Pin for Buck 2. Decouple to PGND2 with a low ESR 4.7uF capacitor, CIN2. Decoupling capacitors should be summed where power supply pins are shared.", 12 PGOOD (oc) "The Power Good Pin. This open-drain output is released when an enabled output has risen to within 8% of the regulation voltage. When multiple outputs are enabled, PGOOD is the logical AND of each internal PGOOD.", 13 MODE (in) "Combination Mode Selection and Oscillator Synchronization Pin. This pin controls the operating mode of the device. When tied to SVIN, Burst Mode operation is selected. When tied to SGND, pulse-skipping mode is selected. The (See Datasheet)", 14 RT "Timing Resistor Pin. The free-running oscillator frequency is programmed by connecting a resistor from this pin to ground. Tie to SVIN to get a fixed 2.25MHz operating frequency.", 15 FB2 (in) "Receives the feedback voltage from the external resistive divider across the output of Buck 2. Nominal voltage for this pin is programmed with the EN2 pin from 800mV down to 425mV. When pulled to SVIN, Buck 2 is put into (See Datasheet)", 16 FB1 (in) "Receives the feedback voltage from the external resistive divider across the output of Buck 1. Nominal voltage for this pin is programmed with the EN1 pin from 800mV down to 425mV.", 17 EP (power) "The exposed pad must be connected to PCB ground for rated thermal performance and for electrical connection in the TSSOP package."

## LTC3569IUD#PBF
designator U?
Triple Buck Regulator with 1.2 A and Two 600 mA Outputs and Individual Programmable References, 20-pin QFN (UD-20), -40 to 125 degC, Pb-Free; Manufacturer: Linear Technology; PartNumber: LTC3569IUD#PBF; Number of Outputs: 3; PackageReference: UD-20; PackageDescription: 20-Pin Plastic QFN, Body 3 x 3 mm, Pitch 0.4 mm; Supplier 1: Digi-Key; Supplier Part Number 1: LTC3569IUD#PBF-ND; RoHS: TRUE
footprint LT-UD-20_N (QFN, 20-Leads, Body 3.1x3.1mm, Pitch 0.4mm, Thermal Pad 1.65x1.65mm, IPC Medium Density)
footprint LT-UD-20_L (QFN, 20-Leads, Body 3.1x3.1mm, Pitch 0.4mm, Thermal Pad 1.65x1.65mm, IPC High Density)
footprint LT-UD-20_M (QFN, 20-Leads, Body 3.1x3.1mm, Pitch 0.4mm, Thermal Pad 1.65x1.65mm, IPC Low Density)
pins: 1 SW2 (power) "Buck 2 Switch. Connect to the Inductor for Buck 2. This pin swings from PVIN2 to PGND2.", 2 PVIN2 (power) "Main Supply Pin for Buck 2. Decouple to PGND2 with a low ESR 4.7uF capacitor, CIN2. Decoupling capacitors should be summed where power supply pins are shared.", 3 PGOOD (oc) "The Power Good Pin. This open-drain output is released when an enabled output has risen to within 8% of the regulation voltage. When multiple outputs are enabled, PGOOD is the logical AND of each internal PGOOD.", 4 MODE (in) "Combination Mode Selection and Oscillator Synchronization Pin. This pin controls the operating mode of the device. When tied to SVIN, Burst Mode operation is selected. When tied to SGND, pulse-skipping mode is selected. The (See Datasheet)", 5 RT "Timing Resistor Pin. The free-running oscillator frequency is programmed by connecting a resistor from this pin to ground. Tie to SVIN to get a fixed 2.25MHz operating frequency.", 6 FB2 (in) "Receives the feedback voltage from the external resistive divider across the output of Buck 2. Nominal voltage for this pin is programmed with the EN2 pin from 800mV down to 425mV. When pulled to SVIN, Buck 2 is put into (See Datasheet)", 7 FB1 (in) "Receives the feedback voltage from the external resistive divider across the output of Buck 1. Nominal voltage for this pin is programmed with the EN1 pin from 800mV down to 425mV.", 8 FB3 (in) "Receives the feedback voltage from the external resistive divider across the output of Buck 3. Nominal voltage for this pin is programmed with the EN3 pin from 800mV down to 425mV. When pulled to SVIN, Buck 3 is put into (See Datasheet)", 9 SVIN (power) "Main Supply Pin. Decouple to SGND with a low ESR 1uF capacitor.", 10 SGND (power) "Main Ground Pin. Decouple to SVIN.", 11 EN3 (in) "Enable Pin for Buck 3. Toggle up to 15 times to program reference feedback level from 800mV down to 425mV", 12 EN2 (in) "Enable Pin for Buck 2. Toggle up to 15 times to program reference feedback level from 800mV down to 425mV.", 13 EN1 (in) "Enable Pin for Buck 1. Toggle up to 15 times to program reference feedback level from 800mV down to 425mV.", 14 PGND3 (power) "Main Power Ground Pin for Buck 3. Connect to the (-) terminal of the output capacitor for Buck3, and (-) terminal of CIN3. Decoupling capacitors should be summed where power supply pins are shared.", 15 SW3 (power) "Buck 3 Switch. Connect to the Inductor for Buck 3. This pin swings from PVIN3 to PGND3.", 16 PVIN3 (power) "Main Supply Pin for Buck 3. Decouple to PGND3 with a low ESR 4.7uF capacitor, CIN3. Decoupling capacitors should be summed where power supply pins are shared.", 17 PVIN1 (power) "Main Supply Pin for Buck 1. Decouple to PGND1 with a low ESR 4.7uF capacitor, CIN1. Decoupling capacitors should be summed where power supply pins are shared.", 18 SW1 (power) "Buck 1 Switch. Connect to the Inductor for Buck 1. This pin swings from PVIN1 to PGND1.", 19 PGND1 (power) "Main Power Ground Pin for Buck 1. Connect to the (-) terminal of the output capacitor for Buck1, and (-) terminal of CIN1. Decoupling capacitors should be summed where power supply pins are shared.", 20 PGND2 (power) "Main Power Ground Pin for Buck 2. Connect to the (-) terminal of the output capacitor for Buck2, and (-) terminal of CIN2. Decoupling capacitors should be summed where power supply pins are shared.", 21 EP (power) "The exposed pad must be connected to PCB ground for rated thermal performance and for electrical connection in the TSSOP package."